# Altium footprint library Connectors.PcbLib: 45 footprints (part 3 of 3)
Each footprint in its own frame and in the unit in brackets; x right, y up, seen from the top. Pads: shape width x height; smd on the part's side, far side on the other; paste and mask are expansions set on the pad; w line width, h text height; cw(c..) or ccw(c..) is an arc to the next point about the centre after c.
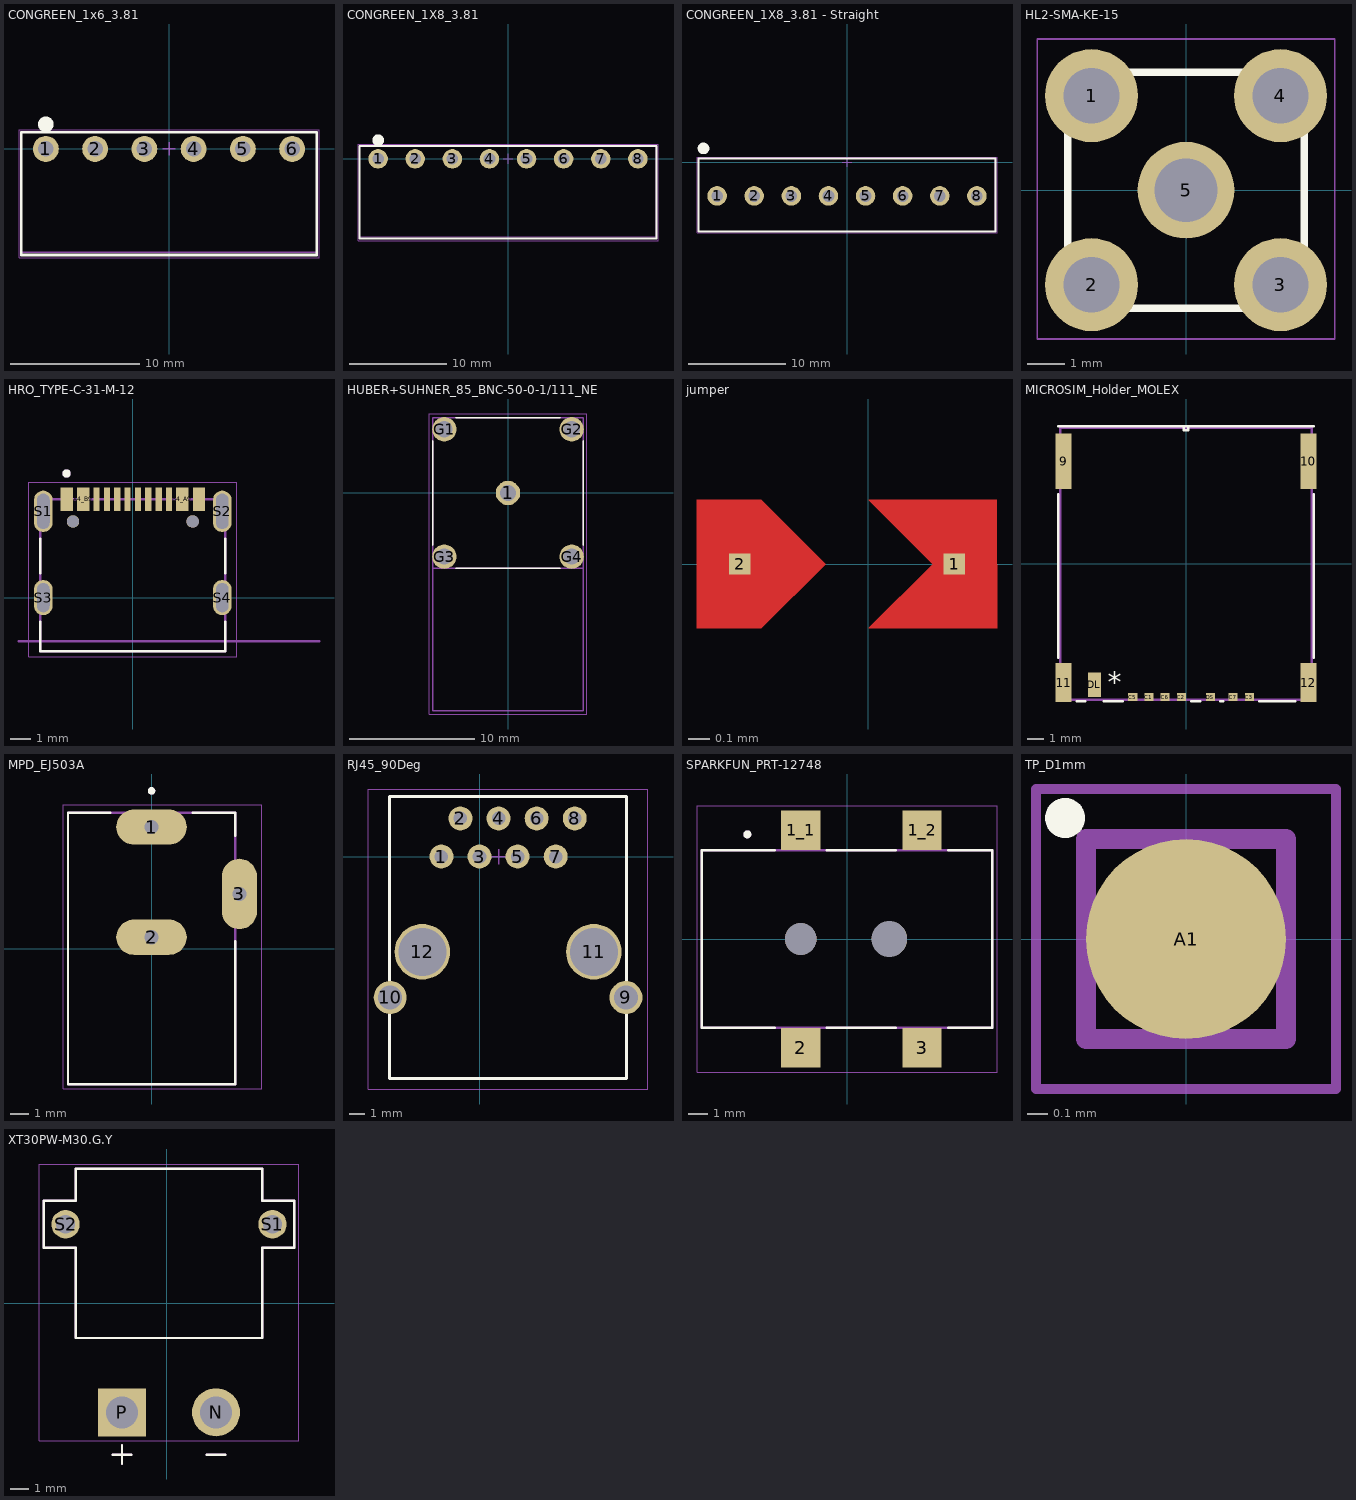
[diagram p2: the footprints below, top view; thin cyan lines are the x and y axes]

## CONGREEN_1x6_3.81 [mm] "SOIC, 100-Leads, Body 64,17x3,05mm, Pitch 1,27mm, IPC Medium Density"
height 4.8
pads (6):
  round 2 hole 1.2: 1(-9.525,0) 2(-5.715,0) 3(-1.905,0) 4(1.905,0) 5(5.715,0) 6(9.525,0)
Top Overlay:
  circle w0.6: c-9.525,1.905 r0.3
  lines w0.2: -11.43,-8.2 -11.43,1.3 11.43,1.3 11.43,-8.2 -11.43,-8.2
Mechanical 13:
  lines w0.1: -11.43,-8 -11.43,1.3 11.43,1.3 11.43,-8 -11.43,-8
Mechanical 15:
  lines w0.05: -11.6,-8.4 -11.6,1.5 11.6,1.5 11.6,-8.4 -11.6,-8.4
  lines w0.1: -0.5,0 0.5,0 ; 0,-0.5 0,0.5
3D body: height 3.8, standoff 3, extent 9.08,-7.6 9.98,0.4
3D body: height 3.6, standoff -3.6, extent 9.075,-0.45 9.975,0.45
3D body: height 3.8, standoff 3, extent -9.97,-7.6 -9.07,0.4
3D body: height 3.6, standoff -3.6, extent -9.975,-0.45 -9.075,0.45
3D body: height 3.8, standoff 3, extent -6.16,-7.6 -5.26,0.4
3D body: height 3.6, standoff -3.6, extent -6.165,-0.45 -5.265,0.45
3D body: height 3.8, standoff 3, extent -2.35,-7.6 -1.45,0.4
3D body: height 3.6, standoff -3.6, extent -2.355,-0.45 -1.455,0.45
3D body: height 3.6, standoff -3.6, extent 1.455,-0.45 2.355,0.45
3D body: height 3.8, standoff 3, extent 1.46,-7.6 2.36,0.4
3D body: height 6.8, standoff 0.1, extent -11.43,-1.5 11.43,1.35
3D body: height 0.9, standoff 0.1, extent -11.43,-8 11.43,1.29
3D body: height 6.8, standoff 6, extent -11.43,-8 11.43,1.29
3D body: height 3.8, standoff 3, extent 5.27,-7.6 6.17,0.4
3D body: height 3.6, standoff -3.6, extent 5.265,-0.45 6.165,0.45

## CONGREEN_1X8_3.81 [mm] "SOIC, 100-Leads, Body 64,17x3,05mm, Pitch 1,27mm, IPC Medium Density"
height 4.8
pads (8):
  round 2 hole 1.2: 1(-13.335,0) 2(-9.525,0) 3(-5.715,0) 4(-1.905,0) 5(1.905,0) 6(5.715,0) 7(9.525,0) 8(13.335,0)
Top Overlay:
  circle w0.6: c-13.335,1.905 r0.3
  lines w0.2: -15.24,-8.2 -15.24,1.3 15.24,1.3 15.24,-8.2 -15.24,-8.2
Mechanical 13:
  lines w0.1: -15.24,-8 -15.24,1.3 15.24,1.3 15.24,-8 -15.24,-8
Mechanical 15:
  lines w0.05: -15.4,-8.4 -15.4,1.5 15.4,1.5 15.4,-8.4 -15.4,-8.4
  lines w0.1: -0.5,0 0.5,0 ; 0,-0.5 0,0.5
3D body: height 3.8, standoff 3, extent 12.89,-7.6 13.79,0.4
3D body: height 3.6, standoff -3.6, extent 12.885,-0.45 13.785,0.45
3D body: height 3.8, standoff 3, extent 9.08,-7.6 9.98,0.4
3D body: height 3.6, standoff -3.6, extent 9.075,-0.45 9.975,0.45
3D body: height 3.8, standoff 3, extent 5.27,-7.6 6.17,0.4
3D body: height 3.6, standoff -3.6, extent 5.265,-0.45 6.165,0.45
3D body: height 3.8, standoff 3, extent -13.78,-7.6 -12.88,0.4
3D body: height 3.6, standoff -3.6, extent -13.785,-0.45 -12.885,0.45
3D body: height 3.8, standoff 3, extent -9.97,-7.6 -9.07,0.4
3D body: height 3.6, standoff -3.6, extent -9.975,-0.45 -9.075,0.45
3D body: height 3.8, standoff 3, extent -6.16,-7.6 -5.26,0.4
3D body: height 3.6, standoff -3.6, extent -6.165,-0.45 -5.265,0.45
3D body: height 3.6, standoff -3.6, extent -2.355,-0.45 -1.455,0.45
3D body: height 3.8, standoff 3, extent -2.35,-7.6 -1.45,0.4
3D body: height 6.8, standoff 0.1, extent -15.24,-1.5 15.24,1.35
3D body: height 0.9, standoff 0.1, extent -15.24,-8 15.24,1.29
3D body: height 6.8, standoff 6, extent -15.24,-8 15.24,1.29
3D body: height 3.8, standoff 3, extent 1.46,-7.6 2.36,0.4
3D body: height 3.6, standoff -3.6, extent 1.455,-0.45 2.355,0.45

## CONGREEN_1X8_3.81 - Straight [mm] "Straight Pin 3.81MM Pitch green connector"
height 4.8
pads (8):
  round 2 hole 1.2: 1(-13.335,-3.48) 2(-9.525,-3.48) 3(-5.715,-3.48) 4(-1.905,-3.48) 5(1.905,-3.48) 6(5.715,-3.48) 7(9.525,-3.48) 8(13.335,-3.48)
Top Overlay:
  circle w0.6: c-14.732,1.397 r0.3
  lines w0.2: -15.24,-7.112 -15.24,0.381 15.24,0.381 15.24,-7.112 -15.24,-7.112
Mechanical 13:
  lines w0.1: -15.24,-7.112 -15.24,0.381 15.24,0.381 15.24,-7.112 -15.24,-7.112
Mechanical 15:
  lines w0.05: -15.4,-7.239 -15.4,0.508 15.4,0.508 15.4,-7.239 -15.4,-7.239
  lines w0.1: -0.5,0 0.5,0 ; 0,-0.5 0,0.5
3D body: height 6, standoff -1.2, extent -9.975,-3.93 -9.075,-3.03
3D body: height 6, standoff -1.2, extent 12.885,-3.93 13.785,-3.03
3D body: height 6, standoff -1.2, extent 9.075,-3.93 9.975,-3.03
3D body: height 6, standoff -1.2, extent 5.265,-3.93 6.165,-3.03
3D body: height 6, standoff -1.2, extent -13.785,-3.93 -12.885,-3.03
3D body: height 6, standoff -1.2, extent -6.165,-3.93 -5.265,-3.03
3D body: height 6, standoff -1.2, extent -2.355,-3.93 -1.455,-3.03
3D body: height 0.9, standoff 0.1, extent -15.24,-7.112 15.24,0.381
3D body: height 6, standoff -1.2, extent 1.455,-3.93 2.355,-3.03
3D body: height 8, standoff 0.1, extent -15.24,-0.381 15.24,0.381
3D body: height 8, standoff 0.1, extent -15.24,-7.112 15.24,-6.35

## HL2-SMA-KE-15 [mm] "Through Hole Coaxial Connector (RF) Adapters RoHS"
height 4.8
pads (5):
  round 2.5 hole 1.5: 1(-2.54,2.54) 2(-2.54,-2.54) 3(2.54,-2.54) 4(2.54,2.54)
  round 2.6 hole 1.7: 5(0,0)
Top Overlay:
  lines w0.2: -3.175,-3.175 3.175,-3.175 3.175,3.175 -3.175,3.175 -3.175,-3.175
Mechanical 13:
  lines w0.1: -3.175,-3.175 -3.175,3.175 3.175,3.175 3.175,-3.175 -3.175,-3.175
Mechanical 15:
  lines w0.05: -4,-4 4,-4 4,4.064 -4,4.064 -4,-4
  lines w0.1: -0.5,0 0.5,0 ; 0,-0.5 0,0.5
3D body: height 11, standoff 0.1, extent -3.175,-3.175 3.175,3.175

## HRO_TYPE-C-31-M-12 [mm]
height 3.26
pads (18):
  rect 0.6x1.14 smd mask+0.05: A1_B12(-3.2,4.75) A4_B9(-2.4,4.75) B1_A12(3.2,4.75) B4_A9(2.4,4.75)
  rect 0.3x1.14 smd mask+0.05: A5(-1.25,4.75) A6(-0.25,4.75) A7(0.25,4.75) A8(1.25,4.75) B5(1.75,4.75) B6(0.75,4.75) B7(-0.75,4.75) B8(-1.75,4.75)
  oval 0.9x2 hole 0.6 slot 1.7 at 90 deg: S1(-4.325,4.17) S2(4.325,4.17)
  oval 0.9x1.7 hole 0.6 slot 1.4 at 90 deg: S3(-4.325,0) S4(4.325,0)
  round 0.6 hole 0.6 unplated: ""(-2.89,3.68) ""(2.89,3.68)
Top Overlay:
  circle w0.2: c-3.2,6 r0.1
  lines w0.127: -4.47,-1.17 -4.47,-2.6 4.47,-2.6 4.47,-1.17 ; -4.47,1.17 -4.47,2.85 ; 4.47,1.17 4.47,2.85
Mechanical 13:
  circle w0.2: c-3.2,6 r0.1
  lines w0.127: -5.5,-2.11 9,-2.11 ; -4.47,-2.6 -4.47,4.75 4.47,4.75 4.47,-2.6 -4.47,-2.6
  text "PCB EDGE" at 5.2,-1.9 h0.61
Mechanical 15:
  lines w0.05: -5.025,-2.85 5.025,-2.85 5.025,5.57 -5.025,5.57 -5.025,-2.85
3D body "step_temp.STEP": height 3.31, standoff -0.99, extent -4.47,-2.6 4.47,5.305

## HUBER+SUHNER_85_BNC-50-0-1/111_NE [mm]
height 20.5
pads (5):
  round 1.95 hole 1.3: 1(0,0) G1(-5.08,5.08) G2(5.08,5.08) G3(-5.08,-5.08) G4(5.08,-5.08)
Top Overlay:
  lines w0.127: -6,-4.169 -6,4.169 ; -4.169,-6 4.169,-6 ; -4.169,6 4.169,6 ; 6,-4.169 6,4.169
Mechanical 13:
  lines w0.127: -6,-6 -6,6 6,6 6,-6 ; -6,-6 -6,-17.4 6,-17.4 6,-6 ; -6,-6 6,-6
Mechanical 15:
  lines w0.05: -6.305,-17.65 6.305,-17.65 6.305,6.305 -6.305,6.305 -6.305,-17.65
3D body "step_temp.STEP": height 5.51, standoff -19, extent -6,-6 17.41,6

## jumper [mm]
pads (2):
  rect 0.1x0.1 smd: 1(0.4,0) 2(-0.6,0)
Top Layer:
  region: -0.5,-0.3 -0.2,0 -0.5,0.3 -0.8,0.3 -0.8,-0.3
  region: 0,0.3 0.3,0 0,-0.3 0.6,-0.3 0.6,0.3

## MICROSIM_Holder_MOLEX [mil]
pads (12):
  rect 39x134 smd: 9(-297.24,248.79) 10(297.24,248.79)
  rect 39x94 smd: 11(-297.24,-288.61) 12(297.24,-288.61)
  rect 22x20 smd: C1(-89.96,-324.04) C2(-11.22,-324.04) C3(153.74,-324.04) C5(-129.33,-324.04) C6(-50.59,-324.04) C7(114.37,-324.04) DS(59.06,-324.04)
  rect 32x59 smd: DL(-222.44,-293.73)
Top Overlay:
  lines w6: -310,-229 -310,169 ; -310,334 -5,334 ; -265,-334 -245,-334 ; -200,-334 -153,-334 ; 13,-334 35,-334 ; 83,-334 90,-334 ; 178,-334 265,-334 ; 310,-229 310,169 ; 310,334 5,334 ; -5,334 -5,324 5,324 5,334 ; -5,334 5,334
  text "*" at -190,-312.5 h50
Mechanical 13:
  lines w6: -305,-330 -305,330 305,330 305,-330 -305,-330
  text "*" at -190,-312.5 h50

## MPD_EJ503A [mm]
height 11
pads (3):
  oval 3.8x1.9 hole 0.76 square: 1(0,6.54) 2(0,0.61)
  oval 1.9x3.8 hole 0.76 square: 3(4.73,2.94)
Top Overlay:
  circle w0.2: c0,8.49 r0.1
  lines w0.127: -2.22,7.31 -4.5,7.31 -4.5,-7.31 4.5,-7.31 4.5,0.4 ; 2.22,7.31 4.5,7.31 4.5,6.08
Mechanical 13:
  circle w0.2: c0,8.49 r0.1
  lines w0.127: -4.5,-7.31 4.5,-7.31 4.5,7.31 -4.5,7.31 -4.5,-7.31
Mechanical 15:
  lines w0.05: -4.75,-7.56 5.93,-7.56 5.93,7.74 -4.75,7.74 -4.75,-7.56
3D body "step_temp.STEP": height 11, standoff -4.3, extent -4.5,-7.31 4.88,7.31

## RJ45_90Deg [mm]
pads (12):
  round 1.6 hole 0.9: 1(-2.54,0) 2(-1.27,2.54) 3(0,0) 4(1.27,2.54) 5(2.54,0) 6(3.81,2.54) 7(5.08,0) 8(6.35,2.54)
  round 2.2 hole 1.6: 9(9.76,-9.4) 10(-5.95,-9.4)
  round 3.7 hole 3.2: 11(7.62,-6.35) 12(-3.81,-6.35)
Top Overlay:
  lines w0.2: -6,-14.8 -6,4 9.8,4 9.8,-14.8 -6,-14.8
Mechanical 13:
  lines w0.1: -6,-14.8 -6,4 9.8,4 9.8,-14.8 -6,-14.8
Mechanical 15:
  lines w0.05: -7.4,-15.5 -7.4,4.5 11.2,4.5 11.2,-15.5 -7.4,-15.5
  lines w0.1: 0.77,0 1.77,0 ; 1.27,-0.5 1.27,0.5
3D body: height 13.3, standoff 0.3, extent -6,-14.8 9.8,4

## SPARKFUN_PRT-12748 [mm]
height 11
pads (6):
  rect 2x2 smd: 1_1(-2.35,5.5) 1_2(3.8,5.5) 2(-2.35,-5.5) 3(3.8,-5.5)
  round 1.6 hole 1.6 unplated: ""(-2.35,0)
  round 1.8 hole 1.8 unplated: ""(2.15,0)
Top Overlay:
  circle w0.2: c-5.05,5.3 r0.1
  lines w0.127: -3.67,-4.5 -7.35,-4.5 -7.35,4.5 -3.67,4.5 ; -1.03,-4.5 2.48,-4.5 ; -1.03,4.5 2.48,4.5 ; 5.12,-4.5 7.35,-4.5 7.35,4.5 5.12,4.5
Mechanical 13:
  circle w0.2: c-5.05,5.3 r0.1
  lines w0.127: -7.35,-4.5 7.35,-4.5 7.35,4.5 -7.35,4.5 -7.35,-4.5
Mechanical 15:
  lines w0.05: -7.6,-6.75 -7.6,6.75 7.6,6.75 7.6,-6.75 -7.6,-6.75
3D body "step_temp.STEP": height 11, standoff -1.2, extent -9.5,-6.3 5.3,6.3

## TP_D1mm [mm]
pads (1):
  round 1 smd: A1(0,0)
Top Overlay:
  circle w0.1: c-0.605,0.605 r0.05
Mechanical 13:
  lines w0.1: -0.5,-0.5 0.5,-0.5 0.5,0.5 -0.5,0.5 -0.5,-0.5
Mechanical 15:
  lines w0.05: -0.75,-0.75 0.75,-0.75 0.75,0.75 -0.75,0.75 -0.75,-0.75
  lines w0.1: -0.5,0 0.5,0 ; 0,-0.5 0,0.5
3D body: height 0.1, standoff 0, extent -0.5,-0.5 0.5,0.5

## XT30PW-M30.G.Y [mm]
pads (4):
  round 2.55 hole 1.7: N(2.627,-5.809)
  rect 2.55x2.55 / inner round 2.55 / far side rect 2.55x2.55 hole 1.7: P(-2.373,-5.809)
  round 1.508 hole 1: S1(5.627,4.191) S2(-5.373,4.191)
Top Overlay:
  lines w0.127: -2.873,-8.059 -1.873,-8.059 ; -2.373,-8.559 -2.373,-7.559 ; 2.127,-8.059 3.127,-8.059 ; -6.523,2.941 -4.823,2.941 -4.823,-1.859 5.077,-1.859 5.077,2.941 6.777,2.941 6.777,5.441 5.077,5.441 5.077,7.141 -4.823,7.141 -4.823,5.441 -6.523,5.441 -6.523,2.941
Mechanical 13:
  lines w0.127: -2.873,-8.059 -1.873,-8.059 ; -2.373,-8.559 -2.373,-7.559 ; 2.127,-8.059 3.127,-8.059 ; -6.523,2.941 -4.823,2.941 -4.823,-1.859 5.077,-1.859 5.077,2.941 6.777,2.941 6.777,5.441 5.077,5.441 5.077,7.141 -4.823,7.141 -4.823,5.441 -6.523,5.441 -6.523,2.941
Mechanical 15:
  lines w0.05: -6.773,-7.334 -6.773,7.391 7.027,7.391 7.027,-7.334 -6.773,-7.334
3D body "step_temp.STEP": height 5, standoff -2, extent -6.523,-6.809 6.777,7.141